# Altium schematic symbol library MCU and memory.SchLib: 9 symbols
Pins are listed as number, name and electrical type; pins without a type are passive.

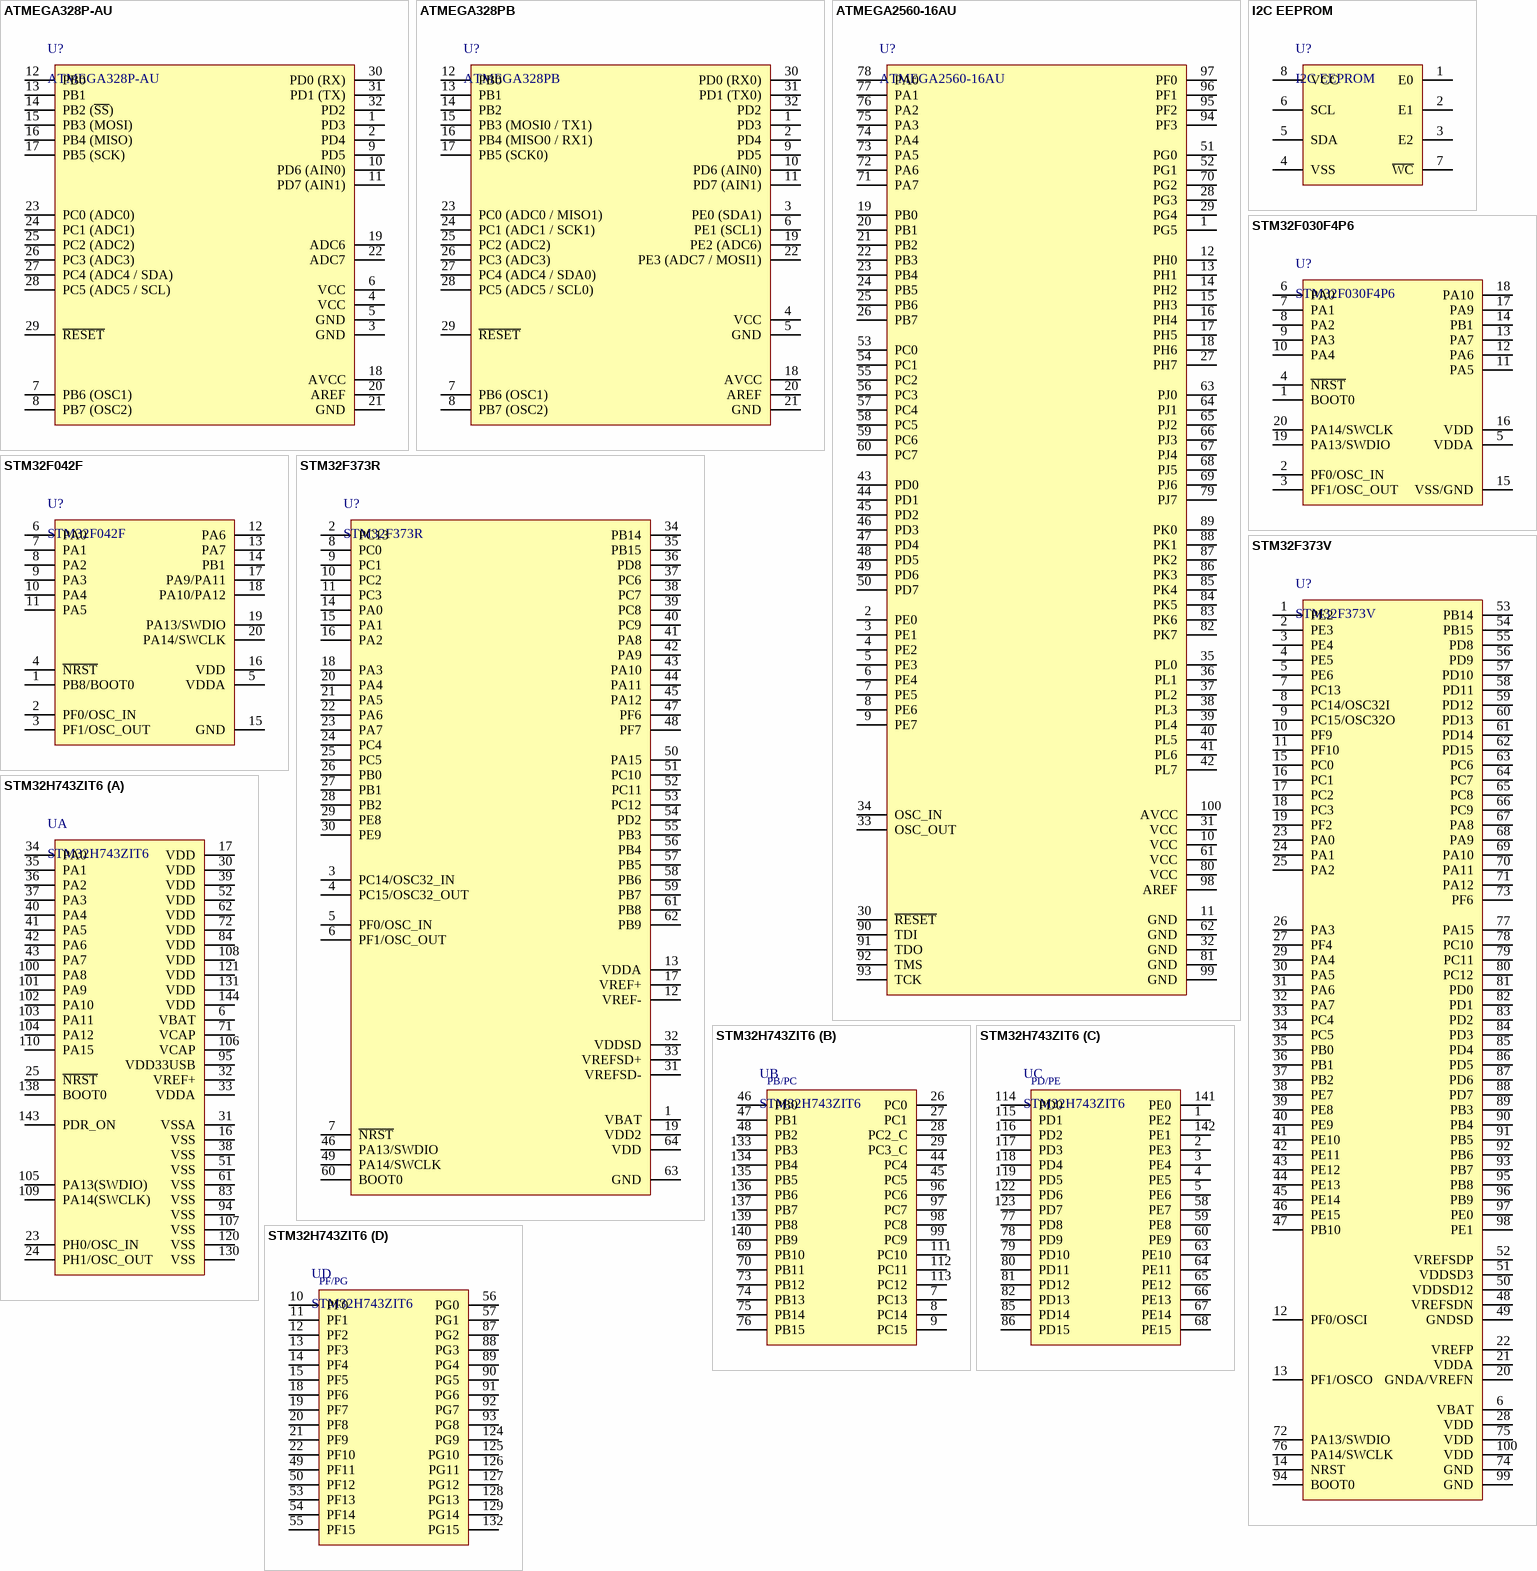
[diagram p0: symbols ATMEGA328P-AU to STM32H743ZIT6]

## ATMEGA328P-AU
designator U?
AVR
footprint LQFP32
pins: 0 EP hidden "Exposed Paddle. The 32-lead LFCSP_VQ has an exposed paddle that must be left unconnected.", 1 PD3, 2 PD4, 3 GND, 4 VCC, 5 GND, 6 VCC, 7 PB6 (OSC1), 8 PB7 (OSC2), 9 PD5, 10 PD6 (AIN0), 11 PD7 (AIN1), 12 PB0, 13 PB1, 14 PB2 (~{SS}), 15 PB3 (MOSI), 16 PB4 (MISO), 17 PB5 (SCK), 18 AVCC, 19 ADC6, 20 AREF, 21 GND, 22 ADC7, 23 PC0 (ADC0), 24 PC1 (ADC1), 25 PC2 (ADC2), 26 PC3 (ADC3), 27 PC4 (ADC4 / SDA), 28 PC5 (ADC5 / SCL), 29 ~{RESET}, 30 PD0 (RX), 31 PD1 (TX), 32 PD2

## ATMEGA328PB
designator U?
AVR
footprint LQFP32
pins: 0 EP hidden "Exposed Paddle. The 32-lead LFCSP_VQ has an exposed paddle that must be left unconnected.", 1 PD3, 2 PD4, 3 PE0 (SDA1), 4 VCC, 5 GND, 6 PE1 (SCL1), 7 PB6 (OSC1), 8 PB7 (OSC2), 9 PD5, 10 PD6 (AIN0), 11 PD7 (AIN1), 12 PB0, 13 PB1, 14 PB2, 15 PB3 (MOSI0 / TX1), 16 PB4 (MISO0 / RX1), 17 PB5 (SCK0), 18 AVCC, 19 PE2 (ADC6), 20 AREF, 21 GND, 22 PE3 (ADC7 / MOSI1), 23 PC0 (ADC0 / MISO1), 24 PC1 (ADC1 / SCK1), 25 PC2 (ADC2), 26 PC3 (ADC3), 27 PC4 (ADC4 / SDA0), 28 PC5 (ADC5 / SCL0), 29 ~{RESET}, 30 PD0 (RX0), 31 PD1 (TX0), 32 PD2

## ATMEGA2560-16AU
designator U?
32-bit Cortex-M0
footprint LQFP100
pins: 0 EP hidden "Exposed Paddle. The 32-lead LFCSP_VQ has an exposed paddle that must be left unconnected.", 1 PG5, 2 PE0, 3 PE1, 4 PE2, 5 PE3, 6 PE4, 7 PE5, 8 PE6, 9 PE7, 10 VCC, 11 GND, 12 PH0, 13 PH1, 14 PH2, 15 PH3, 16 PH4, 17 PH5, 18 PH6, 19 PB0, 20 PB1, 21 PB2, 22 PB3, 23 PB4, 24 PB5, 25 PB6, 26 PB7, 27 PH7, 28 PG3, 29 PG4, 30 ~{RESET}, 31 VCC, 32 GND, 33 OSC_OUT, 34 OSC_IN, 35 PL0, 36 PL1, 37 PL2, 38 PL3, 39 PL4, 40 PL5, 41 PL6, 42 PL7, 43 PD0, 44 PD1, 45 PD2, 46 PD3, 47 PD4, 48 PD5, 49 PD6, 50 PD7, 51 PG0, 52 PG1, 53 PC0, 54 PC1, 55 PC2, 56 PC3, 57 PC4, 58 PC5, 59 PC6, 60 PC7, 61 VCC, 62 GND, 63 PJ0, 64 PJ1, 65 PJ2, 66 PJ3, 67 PJ4, 68 PJ5, 69 PJ6, 70 PG2, 71 PA7, 72 PA6, 73 PA5, 74 PA4, 75 PA3, 76 PA2, 77 PA1, 78 PA0, 79 PJ7, 80 VCC, 81 GND, 82 PK7, 83 PK6, 84 PK5, 85 PK4, 86 PK3, 87 PK2, 88 PK1, 89 PK0, 90 TDI, 91 TDO, 92 TMS, 93 TCK, 94 PF3, 95 PF2, 96 PF1, 97 PF0, 98 AREF, 99 GND, 100 AVCC

## I2C EEPROM
designator U?
footprint SO8_1.27
pins: 1 E0, 2 E1, 3 E2, 4 VSS, 5 SDA, 6 SCL, 7 ~{WC}, 8 VCC

## STM32F030F4P6
designator U?
32-bit Cortex-M0
footprint SO20_0.65
pins: 0 EP hidden "Exposed Paddle. The 32-lead LFCSP_VQ has an exposed paddle that must be left unconnected.", 1 BOOT0, 2 PF0/OSC_IN, 3 PF1/OSC_OUT, 4 ~{NRST}, 5 VDDA, 6 PA0, 7 PA1, 8 PA2, 9 PA3, 10 PA4, 11 PA5, 12 PA6, 13 PA7, 14 PB1, 15 VSS/GND, 16 VDD, 17 PA9, 18 PA10, 19 PA13/SWDIO, 20 PA14/SWCLK

## STM32F042F
designator U?
32-bit Cortex-M0
footprint TSSOP20 (Dual row, 20 pins, 0.65mm pitch)
pins: 0 EP hidden "Exposed Paddle. The 32-lead LFCSP_VQ has an exposed paddle that must be left unconnected.", 1 PB8/BOOT0, 2 PF0/OSC_IN, 3 PF1/OSC_OUT, 4 ~{NRST}, 5 VDDA, 6 PA0, 7 PA1, 8 PA2, 9 PA3, 10 PA4, 11 PA5, 12 PA6, 13 PA7, 14 PB1, 15 GND, 16 VDD, 17 PA9/PA11, 18 PA10/PA12, 19 PA13/SWDIO, 20 PA14/SWCLK

## STM32F373R
designator U?
32-bit Cortex-M4
footprint LQFP64
pins: 0 EP hidden "Exposed Paddle. The 32-lead LFCSP_VQ has an exposed paddle that must be left unconnected.", 1 VBAT, 2 PC13, 3 PC14/OSC32_IN, 4 PC15/OSC32_OUT, 5 PF0/OSC_IN, 6 PF1/OSC_OUT, 7 ~{NRST}, 8 PC0, 9 PC1, 10 PC2, 11 PC3, 12 VREF-, 13 VDDA, 14 PA0, 15 PA1, 16 PA2, 17 VREF+, 18 PA3, 19 VDD2, 20 PA4, 21 PA5, 22 PA6, 23 PA7, 24 PC4, 25 PC5, 26 PB0, 27 PB1, 28 PB2, 29 PE8, 30 PE9, 31 VREFSD-, 32 VDDSD, 33 VREFSD+, 34 PB14, 35 PB15, 36 PD8, 37 PC6, 38 PC7, 39 PC8, 40 PC9, 41 PA8, 42 PA9, 43 PA10, 44 PA11, 45 PA12, 46 PA13/SWDIO, 47 PF6, 48 PF7, 49 PA14/SWCLK, 50 PA15, 51 PC10, 52 PC11, 53 PC12, 54 PD2, 55 PB3, 56 PB4, 57 PB5, 58 PB6, 59 PB7, 60 BOOT0, 61 PB8, 62 PB9, 63 GND, 64 VDD

## STM32F373V
designator U?
32-bit Cortex-M4
footprint LQFP100
pins: 0 EP hidden "Exposed Paddle. The 32-lead LFCSP_VQ has an exposed paddle that must be left unconnected.", 1 PE2, 2 PE3, 3 PE4, 4 PE5, 5 PE6, 6 VBAT, 7 PC13, 8 PC14/OSC32I, 9 PC15/OSC32O, 10 PF9, 11 PF10, 12 PF0/OSCI, 13 PF1/OSCO, 14 NRST, 15 PC0, 16 PC1, 17 PC2, 18 PC3, 19 PF2, 20 GNDA/VREFN, 21 VDDA, 22 VREFP, 23 PA0, 24 PA1, 25 PA2, 26 PA3, 27 PF4, 28 VDD, 29 PA4, 30 PA5, 31 PA6, 32 PA7, 33 PC4, 34 PC5, 35 PB0, 36 PB1, 37 PB2, 38 PE7, 39 PE8, 40 PE9, 41 PE10, 42 PE11, 43 PE12, 44 PE13, 45 PE14, 46 PE15, 47 PB10, 48 VREFSDN, 49 GNDSD, 50 VDDSD12, 51 VDDSD3, 52 VREFSDP, 53 PB14, 54 PB15, 55 PD8, 56 PD9, 57 PD10, 58 PD11, 59 PD12, 60 PD13, 61 PD14, 62 PD15, 63 PC6, 64 PC7, 65 PC8, 66 PC9, 67 PA8, 68 PA9, 69 PA10, 70 PA11, 71 PA12, 72 PA13/SWDIO, 73 PF6, 74 GND, 75 VDD, 76 PA14/SWCLK, 77 PA15, 78 PC10, 79 PC11, 80 PC12, 81 PD0, 82 PD1, 83 PD2, 84 PD3, 85 PD4, 86 PD5, 87 PD6, 88 PD7, 89 PB3, 90 PB4, 91 PB5, 92 PB6, 93 PB7, 94 BOOT0, 95 PB8, 96 PB9, 97 PE0, 98 PE1, 99 GND, 100 VDD

## STM32H743ZIT6
designator U
32-bit Cortex-M7
footprint LQFP144
part A pins: 6 VBAT (power), 16 VSS (power), 17 VDD (power), 23 PH0/OSC_IN (power), 24 PH1/OSC_OUT (power), 25 ~{NRST} (power), 30 VDD (power), 31 VSSA (power), 32 VREF+ (power), 33 VDDA (power), 34 PA0, 35 PA1, 36 PA2, 37 PA3, 38 VSS (power), 39 VDD (power), 40 PA4, 41 PA5, 42 PA6, 43 PA7, 51 VSS (power), 52 VDD (power), 61 VSS (power), 62 VDD (power), 71 VCAP (power), 72 VDD (power), 83 VSS (power), 84 VDD (power), 94 VSS (power), 95 VDD33USB (power), 100 PA8, 101 PA9, 102 PA10, 103 PA11, 104 PA12, 105 PA13(SWDIO), 106 VCAP (power), 107 VSS (power), 108 VDD (power), 109 PA14(SWCLK), 110 PA15, 120 VSS (power), 121 VDD (power), 130 VSS (power), 131 VDD (power), 138 BOOT0 (power), 143 PDR_ON (power), 144 VDD (power)
part B pins: 7 PC13, 8 PC14, 9 PC15, 26 PC0, 27 PC1, 28 PC2_C, 29 PC3_C, 44 PC4, 45 PC5, 46 PB0, 47 PB1, 48 PB2, 69 PB10, 70 PB11, 73 PB12, 74 PB13, 75 PB14, 76 PB15, 96 PC6, 97 PC7, 98 PC8, 99 PC9, 111 PC10, 112 PC11, 113 PC12, 133 PB3, 134 PB4, 135 PB5, 136 PB6, 137 PB7, 139 PB8, 140 PB9
part C pins: 1 PE2, 2 PE3, 3 PE4, 4 PE5, 5 PE6, 58 PE7, 59 PE8, 60 PE9, 63 PE10, 64 PE11, 65 PE12, 66 PE13, 67 PE14, 68 PE15, 77 PD8, 78 PD9, 79 PD10, 80 PD11, 81 PD12, 82 PD13, 85 PD14, 86 PD15, 114 PD0, 115 PD1, 116 PD2, 117 PD3, 118 PD4, 119 PD5, 122 PD6, 123 PD7, 141 PE0, 142 PE1
part D pins: 10 PF0, 11 PF1, 12 PF2, 13 PF3, 14 PF4, 15 PF5, 18 PF6, 19 PF7, 20 PF8, 21 PF9, 22 PF10, 49 PF11, 50 PF12, 53 PF13, 54 PF14, 55 PF15, 56 PG0, 57 PG1, 87 PG2, 88 PG3, 89 PG4, 90 PG5, 91 PG6, 92 PG7, 93 PG8, 124 PG9, 125 PG10, 126 PG11, 127 PG12, 128 PG13, 129 PG14, 132 PG15
part B text: PB/PC
part C text: PD/PE
part D text: PF/PG